# EAGLE library part ADXL326 (library FlashPCB_Sensors)
ADXL326 -Accelerometer X, Y, Z Axis ÃƒÆ’Ã¢â‚¬Å¡Ãƒâ€šÃ‚Â±19g 1.6kHz (X,Y), 550Hz (Z) Technical Specifications: Bandwidth: 1.6kHz (X,Y), 550Hz (Z) Shock Survival: 10,000 g Component Search: [DATA SHEET NAME] <[FLASHPCB URL]> Datasheet: ADXL326 <https://www.analog.com/media/en/technical-documentation/data-sheets/ADXL326.pdf>
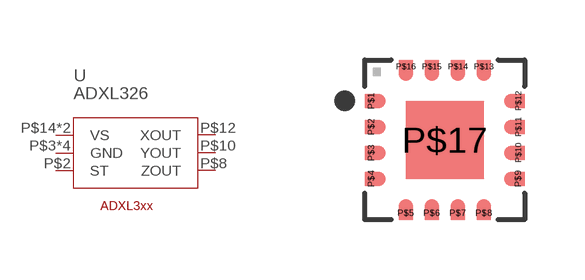
[diagram p2: symbol with the pads of 16-LQFN-EXPOSED-PAD; footprint 16-LQFN-EXPOSED-PAD]

Designator prefix U

## ADXL326  [16-LQFN-EXPOSED-PAD]
P$2  ST
P$3  GND  pwr
P$5  GND  pwr
P$6  GND  pwr
P$7  GND  pwr
P$8  ZOUT
P$10  YOUT  out
P$12  XOUT
P$14  VS  pwr
P$15  VS  pwr

## Footprint 16-LQFN-EXPOSED-PAD (pad centres in mm)
smd 0.325 x 0.35: P$1 -1.837,0.975; P$2 -1.837,0.325; P$3 -1.837,-0.325; P$4 -1.837,-0.975; P$9 1.837,-0.975; P$10 1.837,-0.325; P$11 1.837,0.325; P$12 1.837,0.975
smd 0.35 x 0.325: P$5 -0.975,-1.837; P$6 -0.325,-1.837; P$7 0.325,-1.837; P$8 0.975,-1.837; P$13 0.975,1.837; P$14 0.325,1.837; P$15 -0.325,1.837; P$16 -0.975,1.837
smd 1.95 x 1.95: P$17 0,0